# Altium integrated library Motorola Interface Servo Motor Controller.IntLib: 3 symbols
Pins are listed as number, name and electrical type; pins without a type are passive.

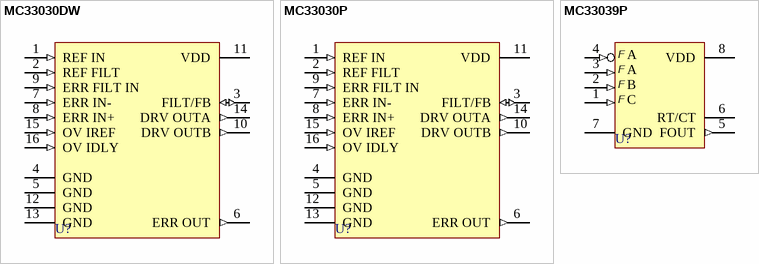
[diagram p0: symbols MC33030DW to MC33039P]

## MC33030DW
designator U?
DC Servo Motor Controller/Driver; Published: 17-Jul-2002; LatestRevisionDate: 13-Apr-2006; LatestRevisionNote: IPC-7351 Footprint Added.; DatasheetVersion: 1996; PackageVersion: 1996; PackageReference: 751G-02; Publisher: Altium Limited; PackageDescription: 16-Pin Small Outline Integrated Circuit 1.27 mm Pitch; ComponentLink1Description: Manufacturer Link; ComponentLink1URL: http://www.onsemi.com/site/products/parametrics/0,4446,407,00.html; ComponentLink2Description: Datasheet; ComponentLink2URL: http://www.onsemi.com/pub/Collateral/MC33030-D.PDF
footprint 751G-02_N (SOIC, 16-Leads, Body 10.3x7.5mm, Pitch 1.27mm, IPC Medium Density)
footprint 751G-02_L (SOIC, 16-Leads, Body 10.3x7.5mm, Pitch 1.27mm, IPC High Density)
footprint 751G-02_M (SOIC, 16-Leads, Body 10.3x7.5mm, Pitch 1.27mm, IPC Low Density)
3D model 751G-02 (16-Pin Small Outline Integrated Circuit 1.27 mm Pitch)
pins: 1 REF IN (in), 2 REF FILT (in), 3 FILT/FB (io), 4 GND (power), 5 GND (power), 6 ERR OUT (out), 7 ERR IN- (in), 8 ERR IN+ (in), 9 ERR FILT IN (in), 10 DRV OUTB (out), 11 VDD (power), 12 GND (power), 13 GND (power), 14 DRV OUTA (out), 15 OV IREF (in), 16 OV IDLY (in)

## MC33030P
designator U?
DC Servo Motor Controller/Driver; Published: 17-Jul-2002; LatestRevisionDate: 06-Jun-2005; LatestRevisionNote: Stylized 3D Model Added.; DatasheetVersion: 1988; PackageReference: 648C-02; Publisher: Altium Limited; PackageDescription: DIP; 16 Leads; Row Spacing 7.62 mm; Pitch 2.54 mm; ComponentLink1Description: Manufacturer Link; ComponentLink1URL: http://www.onsemi.com/site/products/parametrics/0,4446,407,00.html; ComponentLink2Description: Datasheet; ComponentLink2URL: http://www.onsemi.com/pub/Collateral/MC33030-D.PDF
footprint 648C-02 (DIP; 16 Leads; Row Spacing 7.62 mm; Pitch 2.54 mm)
3D model 648C-02 (DIP; 16 Leads; Row Spacing 7.62 mm; Pitch 2.54 mm)
pins: 1 REF IN (in), 2 REF FILT (in), 3 FILT/FB (io), 4 GND (power), 5 GND (power), 6 ERR OUT (out), 7 ERR IN- (in), 8 ERR IN+ (in), 9 ERR FILT IN (in), 10 DRV OUTB (out), 11 VDD (power), 12 GND (power), 13 GND (power), 14 DRV OUTA (out), 15 OV IREF (in), 16 OV IDLY (in)

## MC33039P
designator U?
Closed-Loop Brushless Motor Adapter; Published: 17-Jul-2002; LatestRevisionDate: 06-Jun-2005; LatestRevisionNote: Stylized 3D Model Added.; DatasheetVersion: 1988; PackageReference: 626-05; Publisher: Altium Limited; PackageDescription: DIP; 8 Leads; Row Spacing 7.62 mm; Pitch 2.54 mm; ComponentLink1Description: Manufacturer Link; ComponentLink1URL: http://www.onsemi.com/site/products/parametrics/0,4446,407,00.html; ComponentLink2Description: Datasheet; ComponentLink2URL: http://www.onsemi.com/pub/Collateral/MC33039-D.PDF
footprint 626-05 (DIP; 8 Leads; Row Spacing 7.62 mm; Pitch 2.54 mm)
3D model 626-05 (DIP; 8 Leads; Row Spacing 7.62 mm; Pitch 2.54 mm)
pins: 1 phi C (in), 2 phi B (in), 3 phi A (in), 4 phi ~{A} (in), 5 FOUT (out), 6 RT/CT, 7 GND (power), 8 VDD (power)
text: F; A; B; C